# EAGLE library part L293E (library ST Microelctronics_By_element14_Batch_1)
PUSH-PULL FOUR CHANNEL DRIVERS
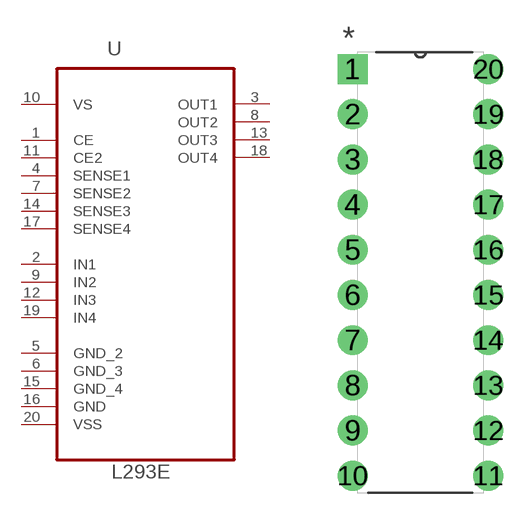
[diagram p30: symbol with the pads of DIP254P762X510-20; footprint DIP254P762X510-20]

Designator prefix U

## L293E (MPN: L293E; OC_FARNELL: 1467711; OC_NEWARK: 89K0732; PACKAGE: PDIP-20; SUPPLIER: STMICROELECTRONICS)  [DIP254P762X510-20]
1  CE  in
2  IN1  in
3  OUT1  out
4  SENSE1  in
5  GND_2  pas
6  GND_3  pas
7  SENSE2  in
8  OUT2  out
9  IN2  in
10  VS  pwr
11  CE2  in
12  IN3  in
13  OUT3  out
14  SENSE3  in
15  GND_4  pas
16  GND  pas
17  SENSE4  in
18  OUT4  out
19  IN4  in
20  VSS  pwr

## Footprint DIP254P762X510-20 (pad centres in mm)
drill 1.118 square: 1 -7.62,22.86
drill 1.118: 2 -7.62,20.32; 3 -7.62,17.78; 4 -7.62,15.24; 5 -7.62,12.7; 6 -7.62,10.16; 7 -7.62,7.62; 8 -7.62,5.08; 9 -7.62,2.54; 10 -7.62,0; 11 0,0; 12 0,2.54; 13 0,5.08; 14 0,7.62; 15 0,10.16; 16 0,12.7; 17 0,15.24; 18 0,17.78; 19 0,20.32; 20 0,22.86